# Altium schematic symbol library STPS1L20MF.SchLib: 1 symbol
Pins are listed as number, name and electrical type; pins without a type are passive.

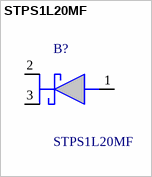
[diagram p0: symbol STPS1L20MF]

## STPS1L20MF
designator B?
20 V, 1A STmite flat Low Drop Power Schottky Rectifier,IF(AV):1 A,VRRM:20 V,Tj (max):150 C,VF (max):0.37 V.; Manufacturer_Name: STMicroelectronics; Geometry.Height: 0.95mm; Mouser Part Number: 511-STPS1L20MF; Mouser Price/Stock: https://www.mouser.co.uk/ProductDetail/STMicroelectronics/STPS1L20MF?qs=VJaATVMq%252BXrAoHjq70MbLw%3D%3D; Manufacturer_Part_Number: STPS1L20MF; Datasheet Link: https://www.st.com/resource/en/datasheet/stps1l20mf.pdf
footprint STPS1L20MF
pins: 1 A, 2 K1, 3 K2